# EAGLE library part 74LCX08 (library kevin_custom)
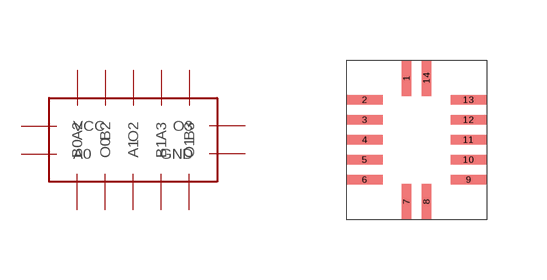
[diagram p0: symbol with the pads of QFN14; footprint QFN14]

Designator prefix -

## 74LCX08  [QFN14]
1  A0
2  B0
3  O0
4  A1
5  B1
6  O1
7  GND
8  O3
9  B3
10  A3
11  O2
12  B2
13  A2
14  VCC

## Footprint QFN14 (pad centres in mm)
smd 0.24 x 0.9: 1 -0.25,1.55; 7 -0.25,-1.55; 8 0.25,-1.55; 14 0.25,1.55
smd 0.9 x 0.24: 2 -1.3,1; 3 -1.3,0.5; 4 -1.3,0; 5 -1.3,-0.5; 6 -1.3,-1; 9 1.3,-1; 10 1.3,-0.5; 11 1.3,0; 12 1.3,0.5; 13 1.3,1